# EAGLE library part CY8C20246A (library 25cmsquare)
CY8C20246A 1.8 V Programmable CapSense® Controller with SmartSense™ Auto-tuning 1–33 Buttons, 0–6 Sliders http://www.cypress.com/?docID=46872
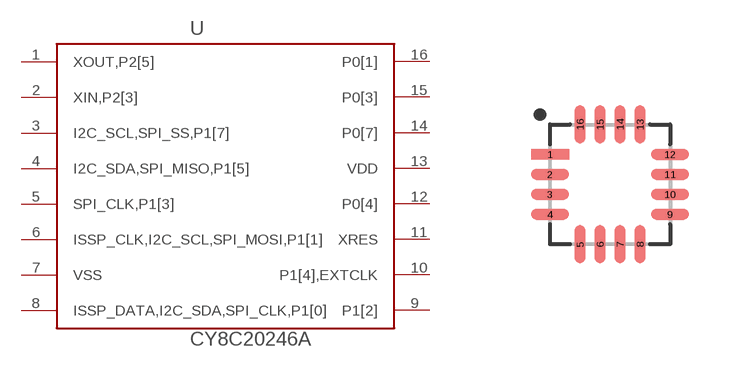
[diagram p4: symbol with the pads of QFN16_3X3_NOEPAD; footprint QFN16_3X3_NOEPAD]

Designator prefix U

## CY8C20246A  [QFN16_3X3_NOEPAD]
1  XOUT,P2[5]
2  XIN,P2[3]
3  I2C_SCL,SPI_SS,P1[7]
4  I2C_SDA,SPI_MISO,P1[5]
5  SPI_CLK,P1[3]
6  ISSP_CLK,I2C_SCL,SPI_MOSI,P1[1]
7  VSS  pwr
8  ISSP_DATA,I2C_SDA,SPI_CLK,P1[0]
9  P1[2]
10  P1[4],EXTCLK
11  XRES
12  P0[4]
13  VDD  pwr
14  P0[7]
15  P0[3]
16  P0[1]

## Footprint QFN16_3X3_NOEPAD (pad centres in mm)
smd 0.95 x 0.27: 1 -1.5,0.75; 2 -1.5,0.25; 3 -1.5,-0.25; 4 -1.5,-0.75; 9 1.5,-0.75; 10 1.5,-0.25; 11 1.5,0.25; 12 1.5,0.75
smd 0.27 x 0.95: 5 -0.75,-1.5; 6 -0.25,-1.5; 7 0.25,-1.5; 8 0.75,-1.5; 13 0.75,1.5; 14 0.25,1.5; 15 -0.25,1.5; 16 -0.75,1.5